# Altium footprint library S1-CM-V3.41.PcbLib: 63 footprints (part 2 of 4)
Each footprint in its own frame and in the unit in brackets; x right, y up, seen from the top. Pads: shape width x height; smd on the part's side, far side on the other; paste and mask are expansions set on the pad; w line width, h text height; cw(c..) or ccw(c..) is an arc to the next point about the centre after c.
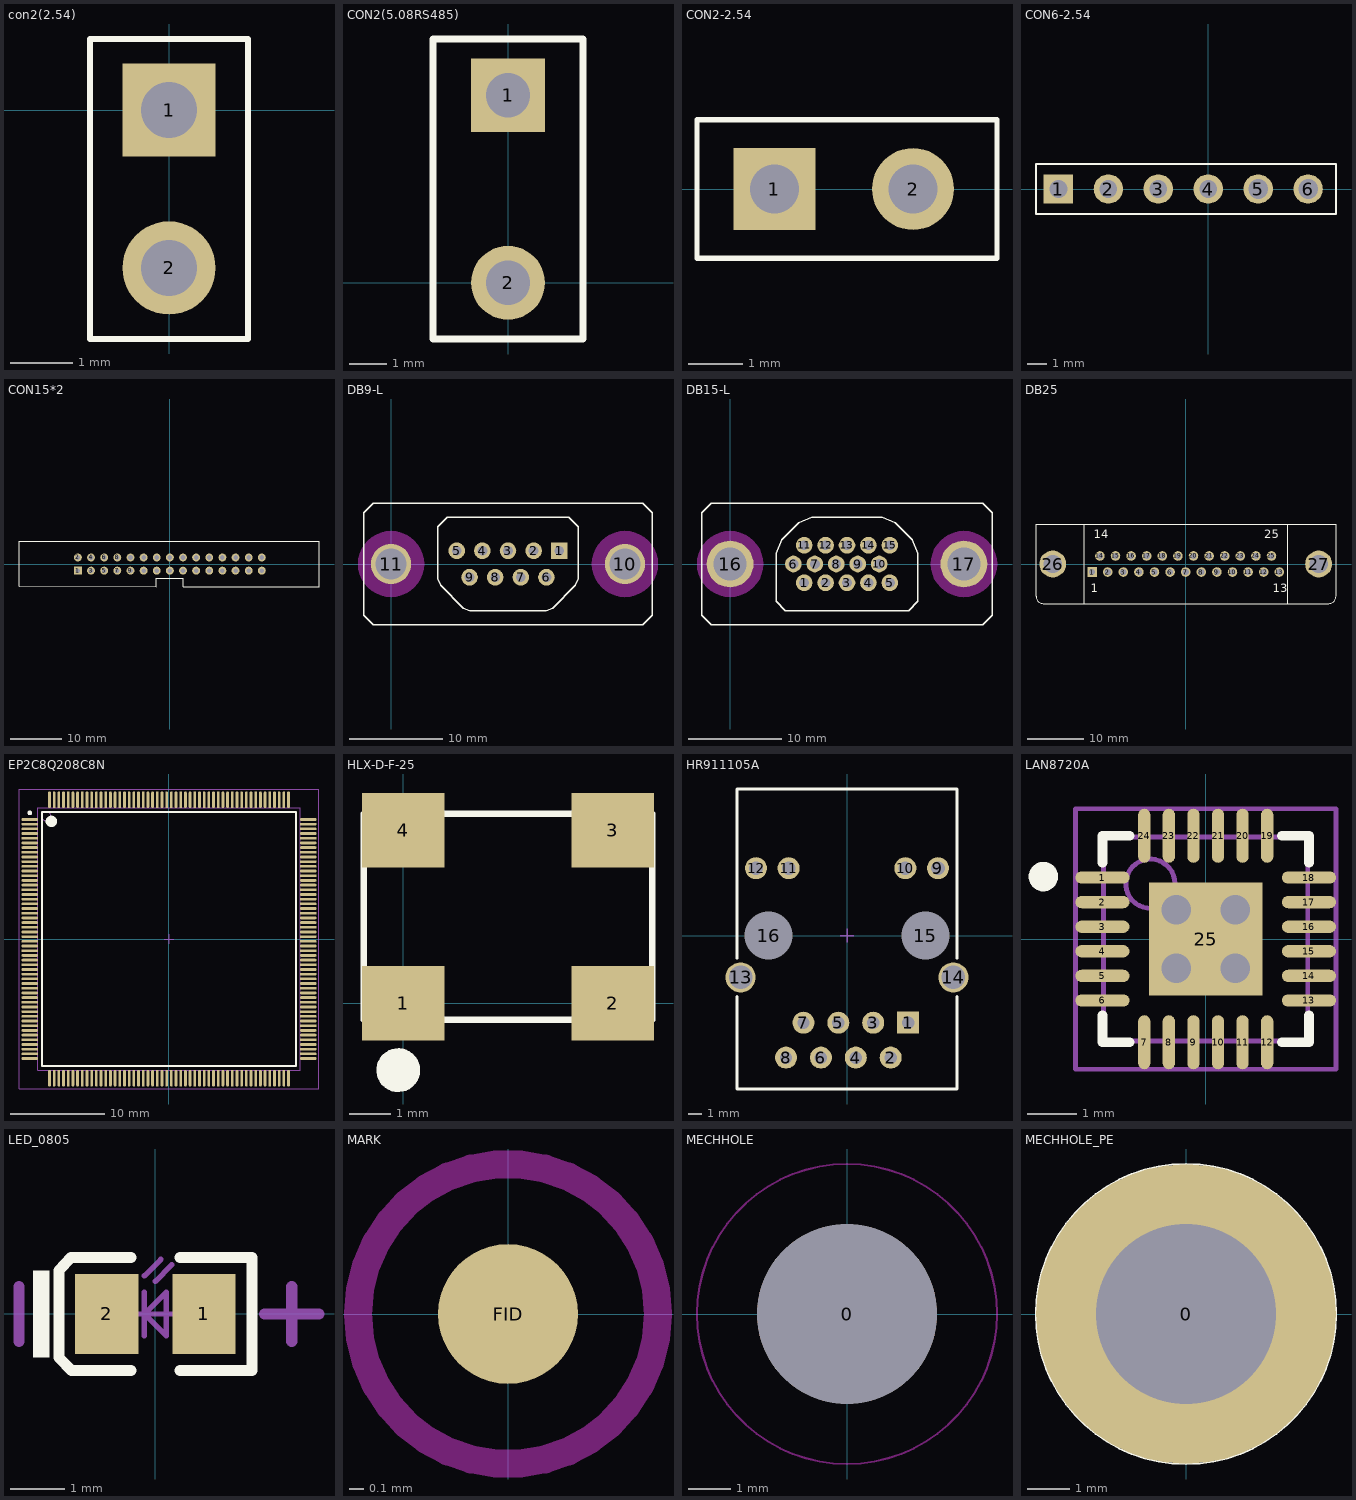
[diagram p1: the footprints below, top view; thin cyan lines are the x and y axes]

## con2(2.54) [mm]
height 1.7
pads (2):
  rect 1.5x1.5 hole 0.9 mask+0.05: 1(0,0)
  round 1.5 hole 0.9 mask+0.05: 2(0,-2.54)
Top Overlay:
  lines w0.1: -1.27,-3.683 -1.27,1.143 1.27,1.143 1.27,-3.683 -1.27,-3.683

## CON2(5.08RS485) [mm]
pads (2):
  rect 2x2 hole 1.2: 1(0,5.08)
  round 2 hole 1.2: 2(0,0)
Top Overlay:
  lines w0.2: -2.032,-1.524 2.032,-1.524 2.032,6.604 -2.032,6.604 -2.032,-1.524

## CON2-2.54 [mm]
pads (2):
  rect 1.5x1.5 hole 0.9 mask+0.05: 1(-5.08,0)
  round 1.5 hole 0.9 mask+0.05: 2(-2.54,0)
Top Overlay:
  lines w0.1: -6.5,-1.27 -1,-1.27 -1,1.27 -6.5,1.27 -6.5,-1.27

## CON6-2.54 [mm]
height 1.7
pads (6):
  rect 1.5x1.5 hole 0.9 mask+0.05: 1(-7.62,0)
  round 1.5 hole 0.9 mask+0.05: 2(-5.08,0) 3(-2.54,0) 4(0,0)
  round 1.5 hole 1: 5(2.54,0) 6(5.08,0)
Top Overlay:
  lines w0.1: -8.763,-1.27 -8.763,1.27 6.5,1.27 6.5,-1.27 -8.763,-1.27

## CON15*2 [mil]
pads (30):
  rect 60x60 / inner round 60 / far side rect 60x60 hole 35: 1(-700,-50)
  round 60 hole 35: 2(-700,50) 3(-600,-50) 4(-600,50) 5(-500,-50) 6(-500,50) 7(-400,-50) 8(-400,50) 9(-300,-50) 10(-300,50) 11(-200,-50) 12(-200,50) 13(-100,-50) 14(-100,50) 15(0,-50) 16(0,50) 17(100,-50) 18(100,50) 19(200,-50) 20(200,50) 21(300,-50) 22(300,50) 23(400,-50) 24(400,50) 25(500,-50) 26(500,50) 27(600,-50) 28(600,50) 29(700,-50) 30(700,50)
Top Overlay:
  lines w6: -1148.38,-170.89 -102.24,-170.89 -102.24,-107.89 102.24,-107.89 102.24,-170.89 1135.09,-170.89 1135.09,171.63 -1148.38,171.63 -1148.38,-170.89

## DB9-L [mm]
pads (11):
  rect 1.778x1.778 hole 1.05: 1(17.98,1.42)
  round 1.778 hole 1.05: 2(15.24,1.42) 3(12.5,1.42) 4(9.76,1.42) 5(7.02,1.42) 6(16.61,-1.42) 7(13.87,-1.42) 8(11.13,-1.42) 9(8.39,-1.42)
  round 4.3 hole 3.3: 10(25,0) 11(0,0)
Top Overlay:
  lines w0.152: -2.9,-5.5 -2.9,5.5 -1.9,6.5 26.9,6.5 27.9,5.5 27.9,-5.5 26.9,-6.5 -1.9,-6.5 -2.9,-5.5 ; 5,-1.586 5,4 6,5 19,5 20,4 20,-1.586 19.707,-2.293 17.293,-4.707 16.586,-5 8.414,-5 7.707,-4.707 5.293,-2.293 5,-1.586
Keep-Out Layer:
  pour cut-out: 28.532,0 28.489,0.553 28.359,1.092 28.147,1.604 27.858,2.076 27.498,2.498 27.076,2.858 26.604,3.147 26.092,3.359 25.553,3.489 25,3.532 24.447,3.489 23.908,3.359 23.396,3.147 22.924,2.858 22.502,2.498 22.142,2.076 21.853,1.604 21.641,1.092 21.511,0.553 21.468,0 21.511,-0.553 21.641,-1.092 21.853,-1.604 22.142,-2.076 22.502,-2.498 22.924,-2.858 23.396,-3.147 23.908,-3.359 24.447,-3.489 25,-3.532 25.553,-3.489 26.092,-3.359 26.604,-3.147 27.076,-2.858 27.498,-2.498 27.858,-2.076 28.147,-1.604 28.359,-1.092 28.489,-0.553
  pour cut-out: 3.532,0 3.489,0.553 3.359,1.092 3.147,1.604 2.858,2.076 2.498,2.498 2.076,2.858 1.604,3.147 1.092,3.359 0.553,3.489 0,3.532 -0.553,3.489 -1.092,3.359 -1.604,3.147 -2.076,2.858 -2.498,2.498 -2.858,2.076 -3.147,1.604 -3.359,1.092 -3.489,0.553 -3.532,0 -3.489,-0.553 -3.359,-1.092 -3.147,-1.604 -2.858,-2.076 -2.498,-2.498 -2.076,-2.858 -1.604,-3.147 -1.092,-3.359 -0.553,-3.489 0,-3.532 0.553,-3.489 1.092,-3.359 1.604,-3.147 2.076,-2.858 2.498,-2.498 2.858,-2.076 3.147,-1.604 3.359,-1.092 3.489,-0.553

## DB15-L [mm]
height 1.7
pads (17):
  round 1.778 / inner round 1.5 / far side round 1.778 hole 1.05: 1(7.915,-2) 2(10.205,-2) 3(12.495,-2) 4(14.785,-2) 5(17.075,-2) 6(6.77,0) 7(9.06,0) 8(11.35,0) 9(13.64,0) 10(15.93,0) 11(7.915,2) 12(10.205,2) 13(12.495,2) 14(14.785,2) 15(17.075,2)
  round 5 hole 3.5: 16(0,0) 17(24.99,0)
Top Overlay:
  lines w0.152: -3.005,-5.5 -2.005,-6.5 26.995,-6.5 27.995,-5.5 27.995,5.5 26.995,6.5 -2.005,6.5 -3.005,5.5 -3.005,-5.5 ; 4.915,-4 5.915,-5 19.075,-5 20.075,-4 20.075,1.172 19.489,2.586 17.661,4.414 16.247,5 8.743,5 7.329,4.414 5.501,2.586 4.915,1.172 4.915,-4
Keep-Out Layer:
  pour cut-out: 3.532,0 3.489,0.553 3.359,1.092 3.147,1.604 2.858,2.076 2.498,2.498 2.076,2.858 1.604,3.147 1.092,3.359 0.553,3.489 0,3.532 -0.553,3.489 -1.092,3.359 -1.604,3.147 -2.076,2.858 -2.498,2.498 -2.858,2.076 -3.147,1.604 -3.359,1.092 -3.489,0.553 -3.532,0 -3.489,-0.553 -3.359,-1.092 -3.147,-1.604 -2.858,-2.076 -2.498,-2.498 -2.076,-2.858 -1.604,-3.147 -1.092,-3.359 -0.553,-3.489 0,-3.532 0.553,-3.489 1.092,-3.359 1.604,-3.147 2.076,-2.858 2.498,-2.498 2.858,-2.076 3.147,-1.604 3.359,-1.092 3.489,-0.553
  pour cut-out: 28.522,0 28.479,0.553 28.349,1.092 28.137,1.604 27.848,2.076 27.488,2.498 27.066,2.858 26.594,3.147 26.082,3.359 25.543,3.489 24.99,3.532 24.437,3.489 23.898,3.359 23.386,3.147 22.914,2.858 22.492,2.498 22.132,2.076 21.843,1.604 21.631,1.092 21.501,0.553 21.458,0 21.501,-0.553 21.631,-1.092 21.843,-1.604 22.132,-2.076 22.492,-2.498 22.914,-2.858 23.386,-3.147 23.898,-3.359 24.437,-3.489 24.99,-3.532 25.543,-3.489 26.082,-3.359 26.594,-3.147 27.066,-2.858 27.488,-2.498 27.848,-2.076 28.137,-1.604 28.349,-1.092 28.479,-0.553

## DB25 [mm]
height 12
pads (27):
  rect 1.69x1.69 hole 1.09: 1(-16.566,-1.42)
  round 1.69 hole 1.09: 2(-13.805,-1.42) 3(-11.044,-1.42) 4(-8.283,-1.42) 5(-5.522,-1.42) 6(-2.761,-1.42) 7(0,-1.42) 8(2.761,-1.42) 9(5.522,-1.42) 10(8.283,-1.42) 11(11.044,-1.42) 12(13.805,-1.42) 13(16.566,-1.42) 14(-15.185,1.42) 15(-12.424,1.42) 16(-9.663,1.42) 17(-6.902,1.42) 18(-4.141,1.42) 19(-1.38,1.42) 20(1.381,1.42) 21(4.142,1.42) 22(6.903,1.42) 23(9.664,1.42) 24(12.425,1.42) 25(15.186,1.42)
  round 4.76 hole 3.26: 26(-23.526,0) 27(23.526,0)
Top Overlay:
  lines w0.127: -26.496,-5.73 ccw(c-25.226,-5.73) -25.226,-7 0,-7 25.334,-7 ccw(c25.334,-5.73) 26.604,-5.73 26.604,7 -26.496,7 -26.496,-5.73
  lines w0.2: -17.946,-7 -17.946,7 ; 18.054,-7 18.054,7
  text "25" at 13.936,4.525 h1.5
  text "14" at -16.31,4.525 h1.5
  text "13" at 15.441,-4.975 h1.5
  text "1" at -16.816,-4.975 h1.5

## EP2C8Q208C8N [mm] "Shrink QFP, 208-Leads, Body 28x28mm, Pitch 0.5mm, IPC Medium Density"
height 4.1
pads (208):
  oval 1.8x0.292 smd: 1(-14.85,12.75) 2(-14.85,12.25) 3(-14.85,11.75) 4(-14.85,11.25) 5(-14.85,10.75) 6(-14.85,10.25) 7(-14.85,9.75) 8(-14.85,9.25) 9(-14.85,8.75) 10(-14.85,8.25) 11(-14.85,7.75) 12(-14.85,7.25) 13(-14.85,6.75) 14(-14.85,6.25) 15(-14.85,5.75) 16(-14.85,5.25) 17(-14.85,4.75) 18(-14.85,4.25) 19(-14.85,3.75) 20(-14.85,3.25) 21(-14.85,2.75) 22(-14.85,2.25) 23(-14.85,1.75) 24(-14.85,1.25) 25(-14.85,0.75) 26(-14.85,0.25) 27(-14.85,-0.25) 28(-14.85,-0.75) 29(-14.85,-1.25) 30(-14.85,-1.75) 31(-14.85,-2.25) 32(-14.85,-2.75) 33(-14.85,-3.25) 34(-14.85,-3.75) 35(-14.85,-4.25) 36(-14.85,-4.75) 37(-14.85,-5.25) 38(-14.85,-5.75) 39(-14.85,-6.25) 40(-14.85,-6.75) 41(-14.85,-7.25) 42(-14.85,-7.75) 43(-14.85,-8.25) 44(-14.85,-8.75) 45(-14.85,-9.25) 46(-14.85,-9.75) 47(-14.85,-10.25) 48(-14.85,-10.75) 49(-14.85,-11.25) 50(-14.85,-11.75) 51(-14.85,-12.25) 52(-14.85,-12.75) 105(14.85,-12.75) 106(14.85,-12.25) 107(14.85,-11.75) 108(14.85,-11.25) 109(14.85,-10.75) 110(14.85,-10.25) 111(14.85,-9.75) 112(14.85,-9.25) 113(14.85,-8.75) 114(14.85,-8.25) 115(14.85,-7.75) 116(14.85,-7.25) 117(14.85,-6.75) 118(14.85,-6.25) 119(14.85,-5.75) 120(14.85,-5.25) 121(14.85,-4.75) 122(14.85,-4.25) 123(14.85,-3.75) 124(14.85,-3.25) 125(14.85,-2.75) 126(14.85,-2.25) 127(14.85,-1.75) 128(14.85,-1.25) 129(14.85,-0.75) 130(14.85,-0.25) 131(14.85,0.25) 132(14.85,0.75) 133(14.85,1.25) 134(14.85,1.75) 135(14.85,2.25) 136(14.85,2.75) 137(14.85,3.25) 138(14.85,3.75) 139(14.85,4.25) 140(14.85,4.75) 141(14.85,5.25) 142(14.85,5.75) 143(14.85,6.25) 144(14.85,6.75) 145(14.85,7.25) 146(14.85,7.75) 147(14.85,8.25) 148(14.85,8.75) 149(14.85,9.25) 150(14.85,9.75) 151(14.85,10.25) 152(14.85,10.75) 153(14.85,11.25) 154(14.85,11.75) 155(14.85,12.25) 156(14.85,12.75)
  oval 0.292x1.8 smd: 53(-12.75,-14.85) 54(-12.25,-14.85) 55(-11.75,-14.85) 56(-11.25,-14.85) 57(-10.75,-14.85) 58(-10.25,-14.85) 59(-9.75,-14.85) 60(-9.25,-14.85) 61(-8.75,-14.85) 62(-8.25,-14.85) 63(-7.75,-14.85) 64(-7.25,-14.85) 65(-6.75,-14.85) 66(-6.25,-14.85) 67(-5.75,-14.85) 68(-5.25,-14.85) 69(-4.75,-14.85) 70(-4.25,-14.85) 71(-3.75,-14.85) 72(-3.25,-14.85) 73(-2.75,-14.85) 74(-2.25,-14.85) 75(-1.75,-14.85) 76(-1.25,-14.85) 77(-0.75,-14.85) 78(-0.25,-14.85) 79(0.25,-14.85) 80(0.75,-14.85) 81(1.25,-14.85) 82(1.75,-14.85) 83(2.25,-14.85) 84(2.75,-14.85) 85(3.25,-14.85) 86(3.75,-14.85) 87(4.25,-14.85) 88(4.75,-14.85) 89(5.25,-14.85) 90(5.75,-14.85) 91(6.25,-14.85) 92(6.75,-14.85) 93(7.25,-14.85) 94(7.75,-14.85) 95(8.25,-14.85) 96(8.75,-14.85) 97(9.25,-14.85) 98(9.75,-14.85) 99(10.25,-14.85) 100(10.75,-14.85) 101(11.25,-14.85) 102(11.75,-14.85) 103(12.25,-14.85) 104(12.75,-14.85) 157(12.75,14.85) 158(12.25,14.85) 159(11.75,14.85) 160(11.25,14.85) 161(10.75,14.85) 162(10.25,14.85) 163(9.75,14.85) 164(9.25,14.85) 165(8.75,14.85) 166(8.25,14.85) 167(7.75,14.85) 168(7.25,14.85) 169(6.75,14.85) 170(6.25,14.85) 171(5.75,14.85) 172(5.25,14.85) 173(4.75,14.85) 174(4.25,14.85) 175(3.75,14.85) 176(3.25,14.85) 177(2.75,14.85) 178(2.25,14.85) 179(1.75,14.85) 180(1.25,14.85) 181(0.75,14.85) 182(0.25,14.85) 183(-0.25,14.85) 184(-0.75,14.85) 185(-1.25,14.85) 186(-1.75,14.85) 187(-2.25,14.85) 188(-2.75,14.85) 189(-3.25,14.85) 190(-3.75,14.85) 191(-4.25,14.85) 192(-4.75,14.85) 193(-5.25,14.85) 194(-5.75,14.85) 195(-6.25,14.85) 196(-6.75,14.85) 197(-7.25,14.85) 198(-7.75,14.85) 199(-8.25,14.85) 200(-8.75,14.85) 201(-9.25,14.85) 202(-9.75,14.85) 203(-10.25,14.85) 204(-10.75,14.85) 205(-11.25,14.85) 206(-11.75,14.85) 207(-12.25,14.85) 208(-12.75,14.85)
Top Overlay:
  circle w0.25: c-14.85,13.45 r0.125
  circle w0.6: c-12.55,12.55 r0.3
  lines w0.2: -13.55,-13.55 -13.55,13.55 13.55,13.55 13.55,-13.55 -13.55,-13.55
Mechanical 13:
  circle w0.1: c-13.1,13.1 r0.5
  lines w0.1: -14,-14 -14,14 14,14 14,-14 -14,-14
Mechanical 15:
  lines w0.05: -16,-16 -16,16 16,16 16,-16 -16,-16
  lines w0.1: -0.5,0 0.5,0 ; 0,-0.5 0,0.5
3D body: height 4.1, standoff 0, extent -14,-14 14,14

## HLX-D-F-25 [mm]
pads (4):
  rect 2x1.8 smd: 1(0,0) 2(5.08,0) 3(5.08,4.2) 4(0,4.2)
Top Overlay:
  circle w0.152: c-0.124,-1.624 r0.457
  circle w0.152: c-0.111,-1.624 r0.324
  circle w0.152: c-0.138,-1.666 r0.163
  circle w0.152: c-0.114,-1.659 r0.104
  circle w0.152: c-0.085,-1.492 r0.104
  circle w0.152: c0.042,-1.643 r0.104
  circle w0.152: c-0.225,-1.506 r0.104
  circle w0.152: c-0.078,-1.657 r0.104
  circle w0.152: c-0.389,-1.485 r0.104
  circle w0.152: c-0.417,-1.666 r0.104
  circle w0.152: c-0.373,-1.846 r0.104
  circle w0.152: c-0.248,-1.951 r0.104
  circle w0.152: c0.107,-1.533 r0.104
  lines w0.152: -0.96,-0.4 6.04,-0.4 6.04,4.6 -0.96,4.6 -0.96,-0.4

## HR911105A [mm]
height 14
pads (16):
  rect 1.6x1.6 hole 0.9: 1(4.45,-6.35)
  round 1.6 hole 0.9: 2(3.18,-8.89) 3(1.91,-6.35) 4(0.64,-8.89) 5(-0.63,-6.35) 6(-1.9,-8.89) 7(-3.17,-6.35) 8(-4.44,-8.89)
  round 1.6 hole 1: 9(6.625,4.9) 10(4.25,4.9) 11(-4.25,4.9) 12(-6.625,4.9)
  round 2.2 hole 1.7: 13(-7.745,-3.05) 14(7.745,-3.05)
  round 3 hole 3.5: 15(5.715,0) 16(-5.715,0)
Top Overlay:
  lines w0.2: -8.001,-4.445 -8.001,-5.81 -8.001,-11.176 8.001,-11.176 8.001,-4.445 ; -8.001,-1.651 -8.001,2.238 -8.001,4.921 -8.001,10.668 8.001,10.668 8.001,4.921 8.001,-1.651
Mechanical 15:
  lines w0.1: -0.508,0 -0.254,0 0.508,0 ; 0,-0.508 0,0.508
3D body: height 14, standoff 0, extent -8.101,-11.276 8.101,10.668

## LAN8720A [mm] "QFN, 24-Leads, Body 4.2x4.2mm (max), Pitch 0.50mm, IPC Medium Density"
height 0.8
pads (25):
  oval 1.1x0.25 smd: 1(-2.1,1.25) 2(-2.1,0.75) 3(-2.1,0.25) 4(-2.1,-0.25) 5(-2.1,-0.75) 6(-2.1,-1.25) 13(2.1,-1.25) 14(2.1,-0.75) 15(2.1,-0.25) 16(2.1,0.25) 17(2.1,0.75) 18(2.1,1.25)
  oval 0.25x1.1 smd: 7(-1.25,-2.1) 8(-0.75,-2.1) 9(-0.25,-2.1) 10(0.25,-2.1) 11(0.75,-2.1) 12(1.25,-2.1) 19(1.25,2.1) 20(0.75,2.1) 21(0.25,2.1) 22(-0.25,2.1) 23(-0.75,2.1) 24(-1.25,2.1)
  rect 2.3x2.3 smd: 25(0,0)
via 0.6,0.6 diameter 1 hole 0.6
via -0.6,-0.6 diameter 1 hole 0.6
via -0.6,0.6 diameter 1 hole 0.6
via 0.6,-0.6 diameter 1 hole 0.6
Top Overlay:
  circle w0.3: c-3.302,1.27 r0.15
  lines w0.2: -2.1,-1.55 -2.1,-2.1 -1.55,-2.1 ; -2.1,1.55 -2.1,2.1 -1.55,2.1 ; 1.55,-2.1 2.1,-2.1 2.1,-1.55 ; 1.55,2.1 2.1,2.1 2.1,1.55
Mechanical 13:
  circle w0.1: c-1.125,1.125 r0.5
  lines w0.1: -2.075,-2.075 2.075,-2.075 2.075,2.075 -2.075,2.075 -2.075,-2.075
Mechanical 15:
  lines w0.1: -0.5,0 0.5,0 ; 0,-0.5 0,0.5 ; -2.65,-2.65 2.65,-2.65 2.65,2.65 -2.65,2.65 -2.65,-2.65
3D body: height 0.8, standoff 0.01, extent -2.075,-2.075 2.075,2.075

## LED_0805 [mm]
height 10
pads (2):
  rect 1.16x1.47 smd: 1(0.89,0) 2(-0.89,0)
Top Overlay:
  rectangle: -2.245,-0.8 -1.945,0.8
  lines w0.2: -0.45,-1.035 -1.535,-1.035 -1.77,-0.8 -1.77,0.8 -1.55,1.035 -0.45,1.035 ; 0.45,-1.035 1.77,-1.035 1.77,1.035 0.45,1.035
Mechanical 13:
  lines w0.1: -0.4,0 0.4,0 ; -0.2,-0.4 -0.2,0.4 ; -0.2,0.7 0.1,1 ; 0,0.6 0.3,0.9 ; -0.2,0 0.2,-0.4 0.2,0.4 -0.2,0
Mechanical 15:
  lines w0.203: -2.5,-0.5 -2.5,0.5 ; 2,0 3,0 ; 2.5,-0.5 2.5,0.5
3D body: height 1.1, standoff 0, extent -1.01,-0.625 1.01,0.625

## MARK [mm] "Benchmark"
height 0.003
pads (1):
  round 1 smd paste-0.55 mask+1: FID(0,0)
Top Layer keep-out:
  circle w0.2: c0,0 r1.072

## MECHHOLE [mm]
height 0.003
pads (1):
  round 4.2 hole 4.2 mask+0: 0(0,0)
Keep-Out Layer:
  circle w0.05: c0,0 r3.5

## MECHHOLE_PE [mm]
height 1.7
pads (1):
  round 7 hole 4.2 mask+0: 0(0,0)
Top Overlay:
  circle w0.05: c0,0 r3.5